# EAGLE library part MULTITECH_XDOT (library lorawan-library)
Multitech LoRaWAN module xDot Link: https://www.multitech.com/brands/multiconnect-xdot Link (dev): http://www.multitech.net/developer/products/multiconnect-dot-series/multiconnect-xdot/
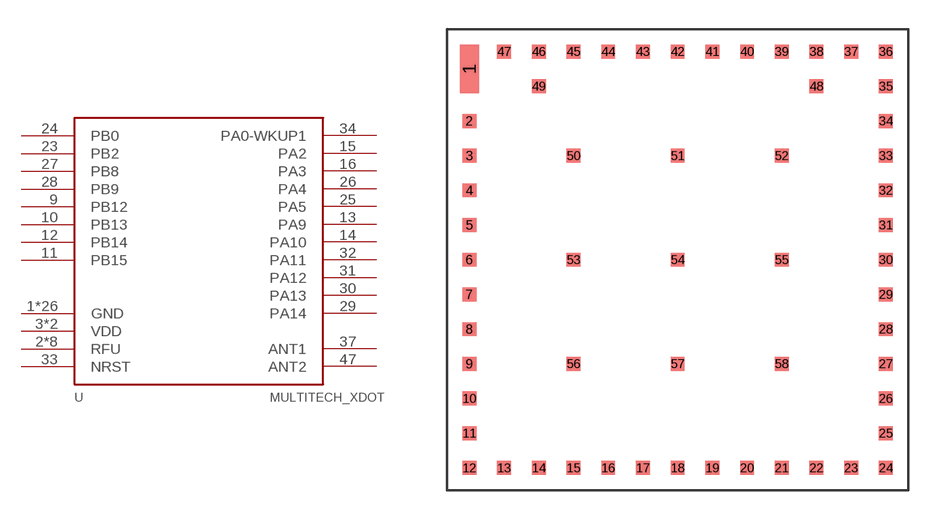
[diagram p9: symbol with the pads of MULTITECH_XDOT; footprint MULTITECH_XDOT]

Designator prefix -

## MULTITECH_XDOT  [MULTITECH_XDOT]
1  GND  pwr
2  RFU  nc
3  VDD  pwr
4  VDD  pwr
5  GND  pwr
6  RFU  nc
7  RFU  nc
8  RFU  nc
9  PB12
10  PB13
11  PB15
12  PB14
13  PA9
14  PA10
15  PA2
16  PA3
17  GND  pwr
18  RFU  nc
19  RFU  nc
20  GND  pwr
21  RFU  nc
22  RFU  nc
23  PB2
24  PB0
25  PA5
26  PA4
27  PB8
28  PB9
29  PA14
30  PA13
31  PA12
32  PA11
33  NRST
34  PA0-WKUP1
35  GND  pwr
36  GND  pwr
37  ANT1
38  GND  pwr
39  GND  pwr
40  GND  pwr
41  GND  pwr
42  GND  pwr
43  GND  pwr
44  GND  pwr
45  GND  pwr
46  GND  pwr
47  ANT2
48  GND  pwr
49  GND  pwr
50  GND  pwr
51  GND  pwr
52  GND  pwr
53  GND  pwr
54  GND  pwr
55  GND  pwr
56  GND  pwr
57  GND  pwr
58  GND  pwr

## Footprint MULTITECH_XDOT (pad centres in mm)
smd 0.97 x 2.49: 1 -10.668,9.779
smd 0.71 x 0.71: 2 -10.668,7.112; 3 -10.668,5.334; 4 -10.668,3.556; 5 -10.668,1.778; 6 -10.668,0; 7 -10.668,-1.778; 8 -10.668,-3.556; 9 -10.668,-5.334; 10 -10.668,-7.112; 11 -10.668,-8.89; 12 -10.67,-10.67; 13 -8.892,-10.67; 14 -7.112,-10.668; 15 -5.334,-10.668; 16 -3.556,-10.668; 17 -1.778,-10.668; 18 0,-10.668; 19 1.778,-10.668; 20 3.556,-10.668; 21 5.334,-10.668; 22 7.112,-10.668; 23 8.89,-10.668; 24 10.668,-10.668; 25 10.668,-8.89; 26 10.668,-7.112; 27 10.668,-5.334; 28 10.668,-3.556; 29 10.668,-1.778; 30 10.668,0; 31 10.668,1.778; 32 10.668,3.556; 33 10.668,5.334; 34 10.668,7.112; 35 10.668,8.89; 36 10.668,10.668; 37 8.89,10.668; 38 7.112,10.668; 39 5.334,10.668; 40 3.556,10.668; 41 1.778,10.668; 42 0,10.668; 43 -1.778,10.668; 44 -3.556,10.668; 45 -5.334,10.668; 46 -7.112,10.668; 47 -8.89,10.668; 48 7.112,8.89; 49 -7.112,8.89; 50 -5.33,5.33; 51 0,5.33; 52 5.33,5.33; 53 -5.33,0; 54 0,0; 55 5.33,0; 56 -5.33,-5.33; 57 0,-5.33; 58 5.33,-5.33